# EAGLE library part TAS5518 (library Audio-Power-amlifier V.2.0)
The TAS5518 is an eight channel digital pulse width a modulator (PWM) that provides superior dynamic range performance and a high level of system integration. The typical dynamic range in a well-designed system is 110 dB and the power supply volume control (PSVC) feature provides up to 24 dB of additional dynamic range at normal listening levels. The TAS5518 is designed to interface seamlessly with most audio digital signal processors. This device automatically adjusts control configurations in response to clock and data rate changes and idle conditions. This enables the TAS5518 to provide an easy to use control interface with relaxed timing requirements. The TAS5518 can drive eight channels of H-bridge power stages. Texas Instruments H-bridge devices TAS5111, TAS5112, and TAS5182 + FETs are designed to work seamlessly with the TAS5518. The TAS5518 supports both single-ended or bridge-tied load configurations. It also provides a high-performance differential output to drive an external differential input analog headphone amplifier (such as the TPA112). The TAS5518 uses an AD modulation operating at a 384-kHz switching rate for 48-, 96-, and 192-kHz data. The 8x over sampling, combined with a 5th-order noise shaper, provides a broad flat noise floor and excellent dynamic range from 20 Hz to 20 kHz. The TAS5518 is a clock slave-only device. It receives MCLK, SCLK, and LRCLK from other system components. It accepts master clock rates of 128, 192, 256, 384, 512, and 768 Fs and a 64-Fs bit clock.
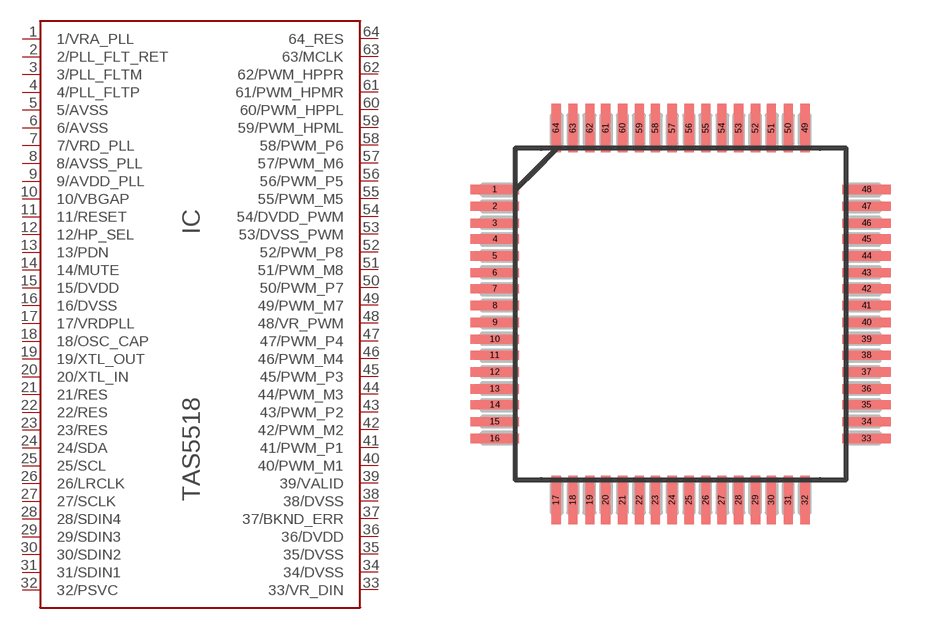
[diagram p103: symbol with the pads of PQFP64-PN; footprint PQFP64-PN]

Designator prefix IC

## TAS5518  [PQFP64-PN]
1  1/VRA_PLL  out
2  2/PLL_FLT_RET
3  3/PLL_FLTM  in
4  4/PLL_FLTP  in
5  5/AVSS  pwr
6  6/AVSS  pwr
7  7/VRD_PLL  out
8  8/AVSS_PLL  pwr
9  9/AVDD_PLL  pwr
10  10/VBGAP  out
11  11/RESET  in
12  12/HP_SEL
13  13/PDN
14  14/MUTE  out
15  15/DVDD  pwr
16  16/DVSS  pwr
17  17/VRDPLL  out
18  18/OSC_CAP  in
19  19/XTL_OUT  out
20  20/XTL_IN  in
21  21/RES  pwr
22  22/RES  pwr
23  23/RES  pwr
24  24/SDA
25  25/SCL
26  26/LRCLK
27  27/SCLK  in
28  28/SDIN4  in
29  29/SDIN3  in
30  30/SDIN2  in
31  31/SDIN1  in
32  32/PSVC  out
33  33/VR_DIN  out
34  34/DVSS  pwr
35  35/DVSS  pwr
36  36/DVDD  pwr
37  37/BKND_ERR
38  38/DVSS  pwr
39  39/VALID  out
40  40/PWM_M1  out
41  41/PWM_P1  out
42  42/PWM_M2  out
43  43/PWM_P2  out
44  44/PWM_M3  out
45  45/PWM_P3  out
46  46/PWM_M4  out
47  47/PWM_P4  out
48  48/VR_PWM  out
49  49/PWM_M7  out
50  50/PWM_P7  out
51  51/PWM_M8  out
52  52/PWM_P8  out
53  53/DVSS_PWM  pwr
54  54/DVDD_PWM  pwr
55  55/PWM_M5  out
56  56/PWM_P5  out
57  57/PWM_M6  out
58  58/PWM_P6  out
59  59/PWM_HPML  out
60  60/PWM_HPPL  out
61  61/PWM_HPMR  out
62  62/PWM_HPPR  out
63  63/MCLK  in
64  64_RES  pwr

## Footprint PQFP64-PN (pad centres in mm)
PAG (S-PQFP-G64)
smd 1.473 x 0.279: 1 -5.613,3.759; 2 -5.613,3.251; 3 -5.613,2.743; 4 -5.613,2.261; 5 -5.613,1.753; 6 -5.613,1.245; 7 -5.613,0.762; 8 -5.613,0.254; 9 -5.613,-0.254; 10 -5.613,-0.762; 11 -5.613,-1.245; 12 -5.613,-1.753; 13 -5.613,-2.261; 14 -5.613,-2.743; 15 -5.613,-3.251; 16 -5.613,-3.759; 33 5.613,-3.759; 34 5.613,-3.251; 35 5.613,-2.743; 36 5.613,-2.261; 37 5.613,-1.753; 38 5.613,-1.245; 39 5.613,-0.762; 40 5.613,-0.254; 41 5.613,0.254; 42 5.613,0.762; 43 5.613,1.245; 44 5.613,1.753; 45 5.613,2.261; 46 5.613,2.743; 47 5.613,3.251; 48 5.613,3.759
smd 0.279 x 1.473: 17 -3.759,-5.613; 18 -3.251,-5.613; 19 -2.743,-5.613; 20 -2.261,-5.613; 21 -1.753,-5.613; 22 -1.245,-5.613; 23 -0.762,-5.613; 24 -0.254,-5.613; 25 0.254,-5.613; 26 0.762,-5.613; 27 1.245,-5.613; 28 1.753,-5.613; 29 2.261,-5.613; 30 2.743,-5.613; 31 3.251,-5.613; 32 3.759,-5.613; 49 3.759,5.613; 50 3.251,5.613; 51 2.743,5.613; 52 2.261,5.613; 53 1.753,5.613; 54 1.245,5.613; 55 0.762,5.613; 56 0.254,5.613; 57 -0.254,5.613; 58 -0.762,5.613; 59 -1.245,5.613; 60 -1.753,5.613; 61 -2.261,5.613; 62 -2.743,5.613; 63 -3.251,5.613; 64 -3.759,5.613